# Altium integrated library RotBoard.IntLib: 4 symbols
Pins are listed as number, name and electrical type; pins without a type are passive.

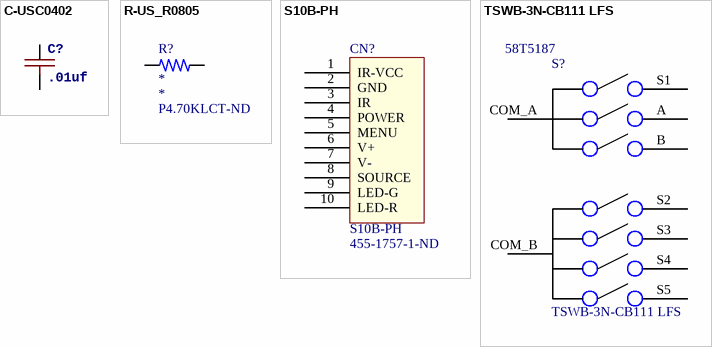
[diagram p0: symbols C-USC0402 to TSWB-3N-CB111 LFS]

## C-USC0402
designator C?, comment .01uf
footprint 0402C-GENERIC
footprint 0402C
pins: 1, 2

## R-US_R0805
designator R?  Supplier Part Number 1: P4.70KLCT-ND
Resistor 0805; Value: *; Supplier 1: Digi-Key
footprint R0805
footprint R0603
footprint R0402
pins: 1, 2

## S10B-PH
designator CN?  Supplier Part Number 1: 455-1757-1-ND
Supplier 1: Digi-Key
footprint PH-SM4
pins: 1 IR-VCC, 2 GND, 3 IR, 4 POWER, 5 MENU, 6 V+, 7 V-, 8 SOURCE, 9 LED-G, 10 LED-R

## TSWB-3N-CB111 LFS
designator S?  Supplier Part Number 1: 58T5187
Supplier 1: Newark
footprint TSWB-3N-CB111 LFS
pins: A, B, COM_A, COM_B, S1, S2, S3, S4, S5